# Altium integrated library AMP CompactPCI Type E.IntLib: 9 symbols
Pins are listed as number, name and electrical type; pins without a type are passive.

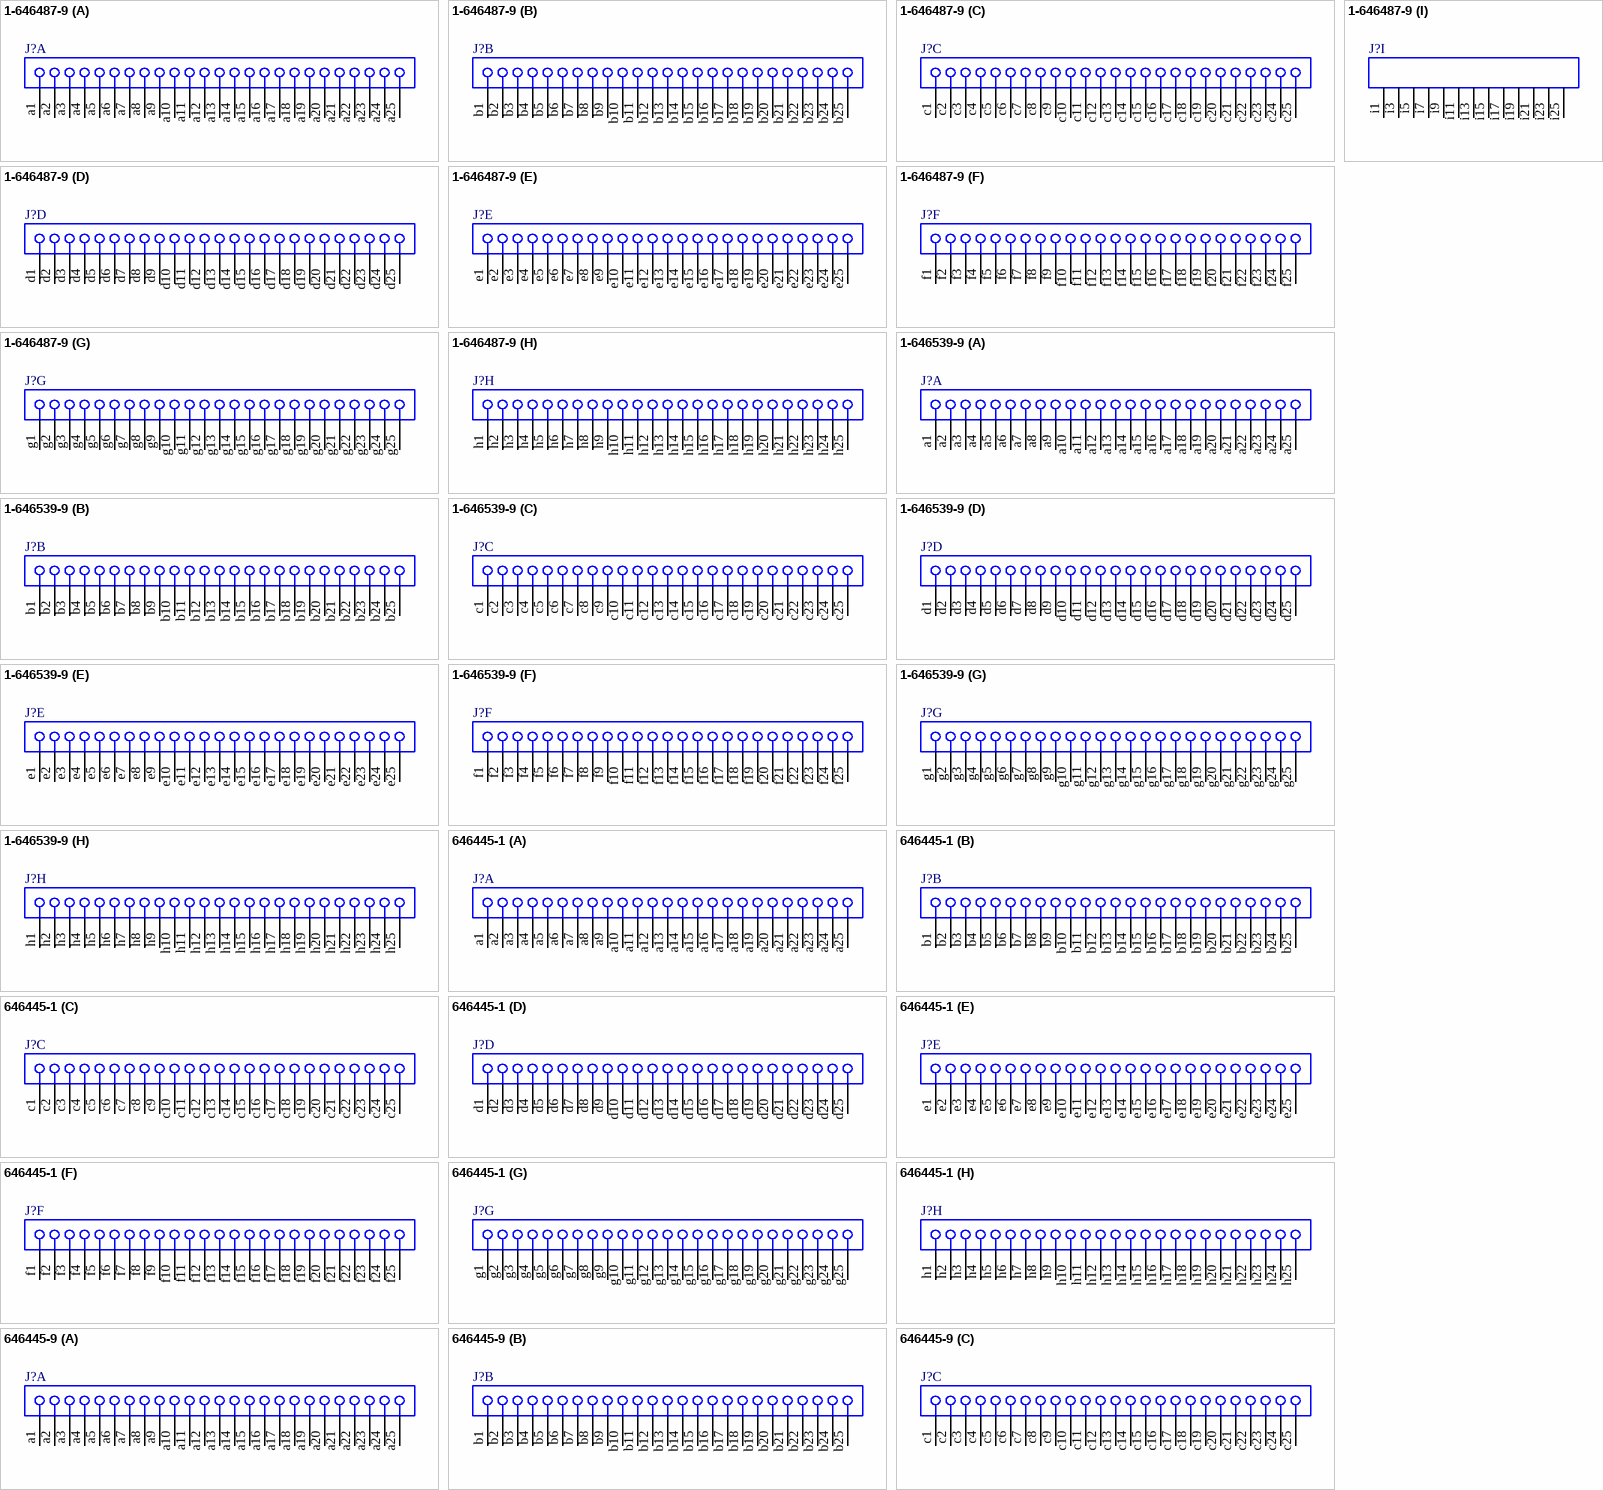
[diagram p0: symbols 1-646487-9 to 646445-9]

## 1-646487-9
designator J?
Z-Pack 2mm Hard Metric Type E 200 Position Female PCB Mount Connector; ContactMaterial: Phosphor Bronze; ContactPlating: Gold (50) over Nickel (50); Positions: 200; PCB_Layout: Complies with manufacturer's recommendation.; DrillSize: Corresponds to nominal value.; Published: 17-Jul-2002; LatestRevisionDate: 29-May-2009; LatestRevisionNote: Component Body Added.; DatasheetVersion: 30-Jul-1999; PackageVersion: 30-Jul-1999; PackageReference: 1-646487-9; Publisher: Altium Limited; Orientation: Right Angle; HousingMaterial: Glass-Filled Polyester, UL 94V-0; ComponentLink1Description: Manufacturer Link; ComponentLink1URL: http://www.tycoelectronics.com/; ComponentLink2Description: Packaging Specification; ComponentLink2URL: http://ecommas.tycoelectronics.com/commerce/DocumentDelivery/DDEController?Action=showdoc&DocId=Customer+Drawing%7F646487%7FD%7Fpdf%7FEnglish%7FENG_CD_646487_D.pdf; ComponentLink3Description: Iges Model; ComponentLink3URL: http://catalog.tycoelectronics.com/TE/docs/cadgeo/0/68/40860.tar.gz
footprint 1-646487-9 (Connector; CompactPCI; 200 Position; Right Angle)
signal-integrity model CompactPCI
part A pins: a1, a2, a3, a4, a5, a6, a7, a8, a9, a10, a11, a12, a13, a14, a15, a16, a17, a18, a19, a20, a21, a22, a23, a24, a25
part B pins: b1, b2, b3, b4, b5, b6, b7, b8, b9, b10, b11, b12, b13, b14, b15, b16, b17, b18, b19, b20, b21, b22, b23, b24, b25
part C pins: c1, c2, c3, c4, c5, c6, c7, c8, c9, c10, c11, c12, c13, c14, c15, c16, c17, c18, c19, c20, c21, c22, c23, c24, c25
part D pins: d1, d2, d3, d4, d5, d6, d7, d8, d9, d10, d11, d12, d13, d14, d15, d16, d17, d18, d19, d20, d21, d22, d23, d24, d25
part E pins: e1, e2, e3, e4, e5, e6, e7, e8, e9, e10, e11, e12, e13, e14, e15, e16, e17, e18, e19, e20, e21, e22, e23, e24, e25
part F pins: f1, f2, f3, f4, f5, f6, f7, f8, f9, f10, f11, f12, f13, f14, f15, f16, f17, f18, f19, f20, f21, f22, f23, f24, f25
part G pins: g1, g2, g3, g4, g5, g6, g7, g8, g9, g10, g11, g12, g13, g14, g15, g16, g17, g18, g19, g20, g21, g22, g23, g24, g25
part H pins: h1, h2, h3, h4, h5, h6, h7, h8, h9, h10, h11, h12, h13, h14, h15, h16, h17, h18, h19, h20, h21, h22, h23, h24, h25
part I pins: i1, i3, i5, i7, i9, i11, i13, i15, i17, i19, i21, i23, i25

## 1-646539-9
designator J?
Z-Pack 2mm Hard Metric Type E 200 Position Female PCB Mount Connector; ContactMaterial: Phosphor Bronze; ContactPlating: Gold (50) over Nickel (50); Positions: 200; PCB_Layout: Complies with manufacturer's recommendation.; DrillSize: Corresponds to nominal value.; Published: 17-Jul-2002; LatestRevisionDate: 29-May-2009; LatestRevisionNote: Component Body Added.; DatasheetVersion: 8-Jun-1999; PackageVersion: 08-Jun-1999; PackageReference: 1-646539-9; Publisher: Altium Limited; Orientation: Vertical; HousingMaterial: Glass-Filled Polyester, UL 94V-0; ComponentLink1Description: Manufacturer Link; ComponentLink1URL: http://www.tycoelectronics.com/; ComponentLink2Description: Packaging Specification; ComponentLink2URL: http://ecommas.tycoelectronics.com/commerce/DocumentDelivery/DDEController?Action=showdoc&DocId=Customer+Drawing%7F646539%7FC%7Fpdf%7FEnglish%7FENG_CD_646539_C.pdf
footprint 1-646539-9 (Connector; CompactPCI; 200 Position; Vertical)
signal-integrity model CompactPCI
part A pins: a1, a2, a3, a4, a5, a6, a7, a8, a9, a10, a11, a12, a13, a14, a15, a16, a17, a18, a19, a20, a21, a22, a23, a24, a25
part B pins: b1, b2, b3, b4, b5, b6, b7, b8, b9, b10, b11, b12, b13, b14, b15, b16, b17, b18, b19, b20, b21, b22, b23, b24, b25
part C pins: c1, c2, c3, c4, c5, c6, c7, c8, c9, c10, c11, c12, c13, c14, c15, c16, c17, c18, c19, c20, c21, c22, c23, c24, c25
part D pins: d1, d2, d3, d4, d5, d6, d7, d8, d9, d10, d11, d12, d13, d14, d15, d16, d17, d18, d19, d20, d21, d22, d23, d24, d25
part E pins: e1, e2, e3, e4, e5, e6, e7, e8, e9, e10, e11, e12, e13, e14, e15, e16, e17, e18, e19, e20, e21, e22, e23, e24, e25
part F pins: f1, f2, f3, f4, f5, f6, f7, f8, f9, f10, f11, f12, f13, f14, f15, f16, f17, f18, f19, f20, f21, f22, f23, f24, f25
part G pins: g1, g2, g3, g4, g5, g6, g7, g8, g9, g10, g11, g12, g13, g14, g15, g16, g17, g18, g19, g20, g21, g22, g23, g24, g25
part H pins: h1, h2, h3, h4, h5, h6, h7, h8, h9, h10, h11, h12, h13, h14, h15, h16, h17, h18, h19, h20, h21, h22, h23, h24, h25

## 646445-1
designator J?
Z-Pack 2mm Hard Metric Type E 200 Position Female PCB Mount Connector; ContactMaterial: Phosphor Bronze; ContactPlating: Gold (30) over Nickel (50); Positions: 200; PCB_Layout: Complies with manufacturer's recommendation.; DrillSize: Corresponds to nominal value.; Published: 17-Jul-2002; LatestRevisionDate: 29-May-2009; LatestRevisionNote: Component Body Added.; DatasheetVersion: 21-Sep-2000; PackageVersion: 21-Sep-2000; PackageReference: 646445-1; Publisher: Altium Limited; Orientation: Right Angle; HousingMaterial: Glass-Filled Polyester, UL 94V-0; ComponentLink1Description: Manufacturer Link; ComponentLink1URL: http://www.tycoelectronics.com/; ComponentLink2Description: Packaging Specification; ComponentLink2URL: http://ecommas.tycoelectronics.com/commerce/DocumentDelivery/DDEController?Action=showdoc&DocId=Customer+Drawing%7F646445%7FF%7Ftif%7FEnglish%7FENG_CD_646445_F.tif; ComponentLink3Description: URL Link1; ComponentLink3URL: http://catalog.tycoelectronics.com/TE/docs/cadgeo/6/73/38376.tar.gz
footprint 646445-1 (Connector; CompactPCI; 200 Position; Right Angle)
signal-integrity model CompactPCI
part A pins: a1, a2, a3, a4, a5, a6, a7, a8, a9, a10, a11, a12, a13, a14, a15, a16, a17, a18, a19, a20, a21, a22, a23, a24, a25
part B pins: b1, b2, b3, b4, b5, b6, b7, b8, b9, b10, b11, b12, b13, b14, b15, b16, b17, b18, b19, b20, b21, b22, b23, b24, b25
part C pins: c1, c2, c3, c4, c5, c6, c7, c8, c9, c10, c11, c12, c13, c14, c15, c16, c17, c18, c19, c20, c21, c22, c23, c24, c25
part D pins: d1, d2, d3, d4, d5, d6, d7, d8, d9, d10, d11, d12, d13, d14, d15, d16, d17, d18, d19, d20, d21, d22, d23, d24, d25
part E pins: e1, e2, e3, e4, e5, e6, e7, e8, e9, e10, e11, e12, e13, e14, e15, e16, e17, e18, e19, e20, e21, e22, e23, e24, e25
part F pins: f1, f2, f3, f4, f5, f6, f7, f8, f9, f10, f11, f12, f13, f14, f15, f16, f17, f18, f19, f20, f21, f22, f23, f24, f25
part G pins: g1, g2, g3, g4, g5, g6, g7, g8, g9, g10, g11, g12, g13, g14, g15, g16, g17, g18, g19, g20, g21, g22, g23, g24, g25
part H pins: h1, h2, h3, h4, h5, h6, h7, h8, h9, h10, h11, h12, h13, h14, h15, h16, h17, h18, h19, h20, h21, h22, h23, h24, h25

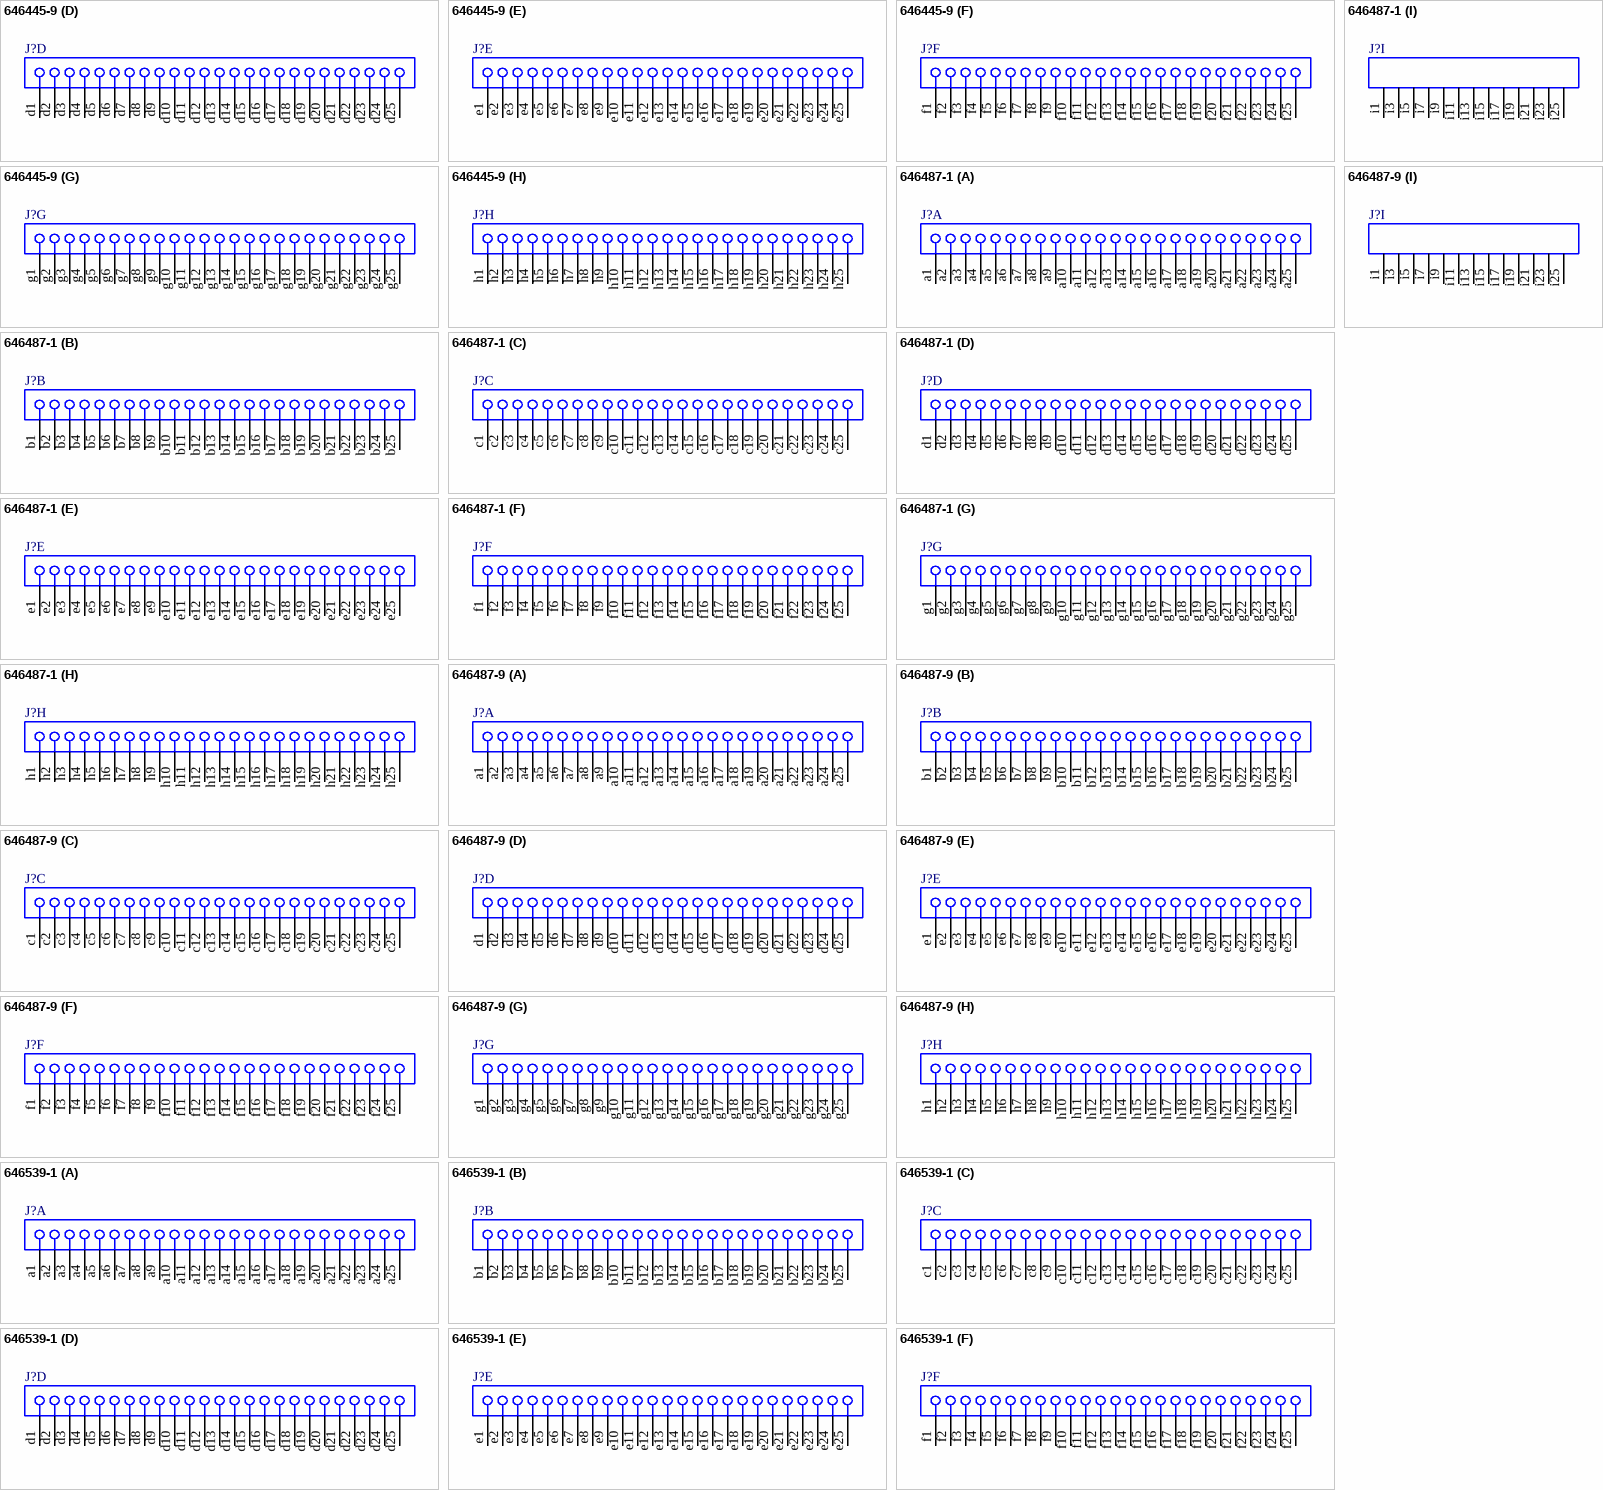
[diagram p1: symbols 646445-9 to 646539-1]

## 646445-9
designator J?
Z-Pack 2mm Hard Metric Type E 200 Position Female PCB Mount Connector; ContactMaterial: Phosphor Bronze; ContactPlating: Gold (30) over Nickel (50); Positions: 200; PCB_Layout: Complies with manufacturer's recommendation.; DrillSize: Corresponds to nominal value.; Published: 17-Jul-2002; LatestRevisionDate: 29-May-2009; LatestRevisionNote: Component Body Added.; DatasheetVersion: 21-Sep-2000; PackageVersion: 21-Sep-2000; PackageReference: 646445-9; Publisher: Altium Limited; Orientation: Right Angle; HousingMaterial: Glass-Filled Polyester, UL 94V-0; ComponentLink1Description: Manufacturer Link; ComponentLink1URL: http://www.tycoelectronics.com/; ComponentLink2Description: Packaging Specification; ComponentLink2URL: http://ecommas.tycoelectronics.com/commerce/DocumentDelivery/DDEController?Action=showdoc&DocId=Customer+Drawing%7F646445%7FF%7Ftif%7FEnglish%7FENG_CD_646445_F.tif; ComponentLink3Description: URL Link1; ComponentLink3URL: http://catalog.tycoelectronics.com/TE/docs/cadgeo/6/73/38376.tar.gz
footprint 646445-9 (Connector; CompactPCI; 200 Position; Right Angle)
signal-integrity model CompactPCI
part A pins: a1, a2, a3, a4, a5, a6, a7, a8, a9, a10, a11, a12, a13, a14, a15, a16, a17, a18, a19, a20, a21, a22, a23, a24, a25
part B pins: b1, b2, b3, b4, b5, b6, b7, b8, b9, b10, b11, b12, b13, b14, b15, b16, b17, b18, b19, b20, b21, b22, b23, b24, b25
part C pins: c1, c2, c3, c4, c5, c6, c7, c8, c9, c10, c11, c12, c13, c14, c15, c16, c17, c18, c19, c20, c21, c22, c23, c24, c25
part D pins: d1, d2, d3, d4, d5, d6, d7, d8, d9, d10, d11, d12, d13, d14, d15, d16, d17, d18, d19, d20, d21, d22, d23, d24, d25
part E pins: e1, e2, e3, e4, e5, e6, e7, e8, e9, e10, e11, e12, e13, e14, e15, e16, e17, e18, e19, e20, e21, e22, e23, e24, e25
part F pins: f1, f2, f3, f4, f5, f6, f7, f8, f9, f10, f11, f12, f13, f14, f15, f16, f17, f18, f19, f20, f21, f22, f23, f24, f25
part G pins: g1, g2, g3, g4, g5, g6, g7, g8, g9, g10, g11, g12, g13, g14, g15, g16, g17, g18, g19, g20, g21, g22, g23, g24, g25
part H pins: h1, h2, h3, h4, h5, h6, h7, h8, h9, h10, h11, h12, h13, h14, h15, h16, h17, h18, h19, h20, h21, h22, h23, h24, h25

## 646487-1
designator J?
Z-Pack 2mm Hard Metric Type E 200 Position Female PCB Mount Connector; ContactMaterial: Phosphor Bronze; ContactPlating: Gold (30) over Nickel (50); Positions: 200; PCB_Layout: Complies with manufacturer's recommendation.; DrillSize: Corresponds to nominal value.; Published: 17-Jul-2002; LatestRevisionDate: 29-May-2009; LatestRevisionNote: Component Body Added.; DatasheetVersion: 30-Jul-1999; PackageVersion: 30-Jul-1999; PackageReference: 646487-1; Publisher: Altium Limited; Orientation: Right Angle; HousingMaterial: Glass-Filled Polyester, UL 94V-0; ComponentLink1Description: Manufacturer Link; ComponentLink1URL: http://www.tycoelectronics.com/; ComponentLink2Description: Packaging Specification; ComponentLink2URL: http://ecommas.tycoelectronics.com/commerce/DocumentDelivery/DDEController?Action=showdoc&DocId=Customer+Drawing%7F646487%7FD%7Fpdf%7FEnglish%7FENG_CD_646487_D.pdf; ComponentLink3Description: Iges Model; ComponentLink3URL: http://catalog.tycoelectronics.com/TE/docs/cadgeo/0/68/40860.tar.gz
footprint 646487-1 (Connector; CompactPCI; 200 Position; Right Angle)
signal-integrity model CompactPCI
part A pins: a1, a2, a3, a4, a5, a6, a7, a8, a9, a10, a11, a12, a13, a14, a15, a16, a17, a18, a19, a20, a21, a22, a23, a24, a25
part B pins: b1, b2, b3, b4, b5, b6, b7, b8, b9, b10, b11, b12, b13, b14, b15, b16, b17, b18, b19, b20, b21, b22, b23, b24, b25
part C pins: c1, c2, c3, c4, c5, c6, c7, c8, c9, c10, c11, c12, c13, c14, c15, c16, c17, c18, c19, c20, c21, c22, c23, c24, c25
part D pins: d1, d2, d3, d4, d5, d6, d7, d8, d9, d10, d11, d12, d13, d14, d15, d16, d17, d18, d19, d20, d21, d22, d23, d24, d25
part E pins: e1, e2, e3, e4, e5, e6, e7, e8, e9, e10, e11, e12, e13, e14, e15, e16, e17, e18, e19, e20, e21, e22, e23, e24, e25
part F pins: f1, f2, f3, f4, f5, f6, f7, f8, f9, f10, f11, f12, f13, f14, f15, f16, f17, f18, f19, f20, f21, f22, f23, f24, f25
part G pins: g1, g2, g3, g4, g5, g6, g7, g8, g9, g10, g11, g12, g13, g14, g15, g16, g17, g18, g19, g20, g21, g22, g23, g24, g25
part H pins: h1, h2, h3, h4, h5, h6, h7, h8, h9, h10, h11, h12, h13, h14, h15, h16, h17, h18, h19, h20, h21, h22, h23, h24, h25
part I pins: i1, i3, i5, i7, i9, i11, i13, i15, i17, i19, i21, i23, i25

## 646487-9
designator J?
Z-Pack 2mm Hard Metric Type E 200 Position Female PCB Mount Connector; ContactMaterial: Phosphor Bronze; ContactPlating: Gold (30) over Nickel (50); Positions: 200; PCB_Layout: Complies with manufacturer's recommendation.; DrillSize: Corresponds to nominal value.; Published: 17-Jul-2002; LatestRevisionDate: 29-May-2009; LatestRevisionNote: Component Body Added.; DatasheetVersion: 30-Jul-1999; PackageVersion: 30-Jul-1999; PackageReference: 646487-9; Publisher: Altium Limited; Orientation: Right Angle; HousingMaterial: Glass-Filled Polyester, UL 94V-0; ComponentLink1Description: Manufacturer Link; ComponentLink1URL: http://www.tycoelectronics.com/; ComponentLink2Description: Packaging Specification; ComponentLink2URL: http://ecommas.tycoelectronics.com/commerce/DocumentDelivery/DDEController?Action=showdoc&DocId=Customer+Drawing%7F646487%7FD%7Fpdf%7FEnglish%7FENG_CD_646487_D.pdf; ComponentLink3Description: Iges Model; ComponentLink3URL: http://catalog.tycoelectronics.com/TE/docs/cadgeo/0/68/40860.tar.gz
footprint 646487-9 (Connector; CompactPCI; 200 Position; Right Angle)
signal-integrity model CompactPCI
part A pins: a1, a2, a3, a4, a5, a6, a7, a8, a9, a10, a11, a12, a13, a14, a15, a16, a17, a18, a19, a20, a21, a22, a23, a24, a25
part B pins: b1, b2, b3, b4, b5, b6, b7, b8, b9, b10, b11, b12, b13, b14, b15, b16, b17, b18, b19, b20, b21, b22, b23, b24, b25
part C pins: c1, c2, c3, c4, c5, c6, c7, c8, c9, c10, c11, c12, c13, c14, c15, c16, c17, c18, c19, c20, c21, c22, c23, c24, c25
part D pins: d1, d2, d3, d4, d5, d6, d7, d8, d9, d10, d11, d12, d13, d14, d15, d16, d17, d18, d19, d20, d21, d22, d23, d24, d25
part E pins: e1, e2, e3, e4, e5, e6, e7, e8, e9, e10, e11, e12, e13, e14, e15, e16, e17, e18, e19, e20, e21, e22, e23, e24, e25
part F pins: f1, f2, f3, f4, f5, f6, f7, f8, f9, f10, f11, f12, f13, f14, f15, f16, f17, f18, f19, f20, f21, f22, f23, f24, f25
part G pins: g1, g2, g3, g4, g5, g6, g7, g8, g9, g10, g11, g12, g13, g14, g15, g16, g17, g18, g19, g20, g21, g22, g23, g24, g25
part H pins: h1, h2, h3, h4, h5, h6, h7, h8, h9, h10, h11, h12, h13, h14, h15, h16, h17, h18, h19, h20, h21, h22, h23, h24, h25
part I pins: i1, i3, i5, i7, i9, i11, i13, i15, i17, i19, i21, i23, i25

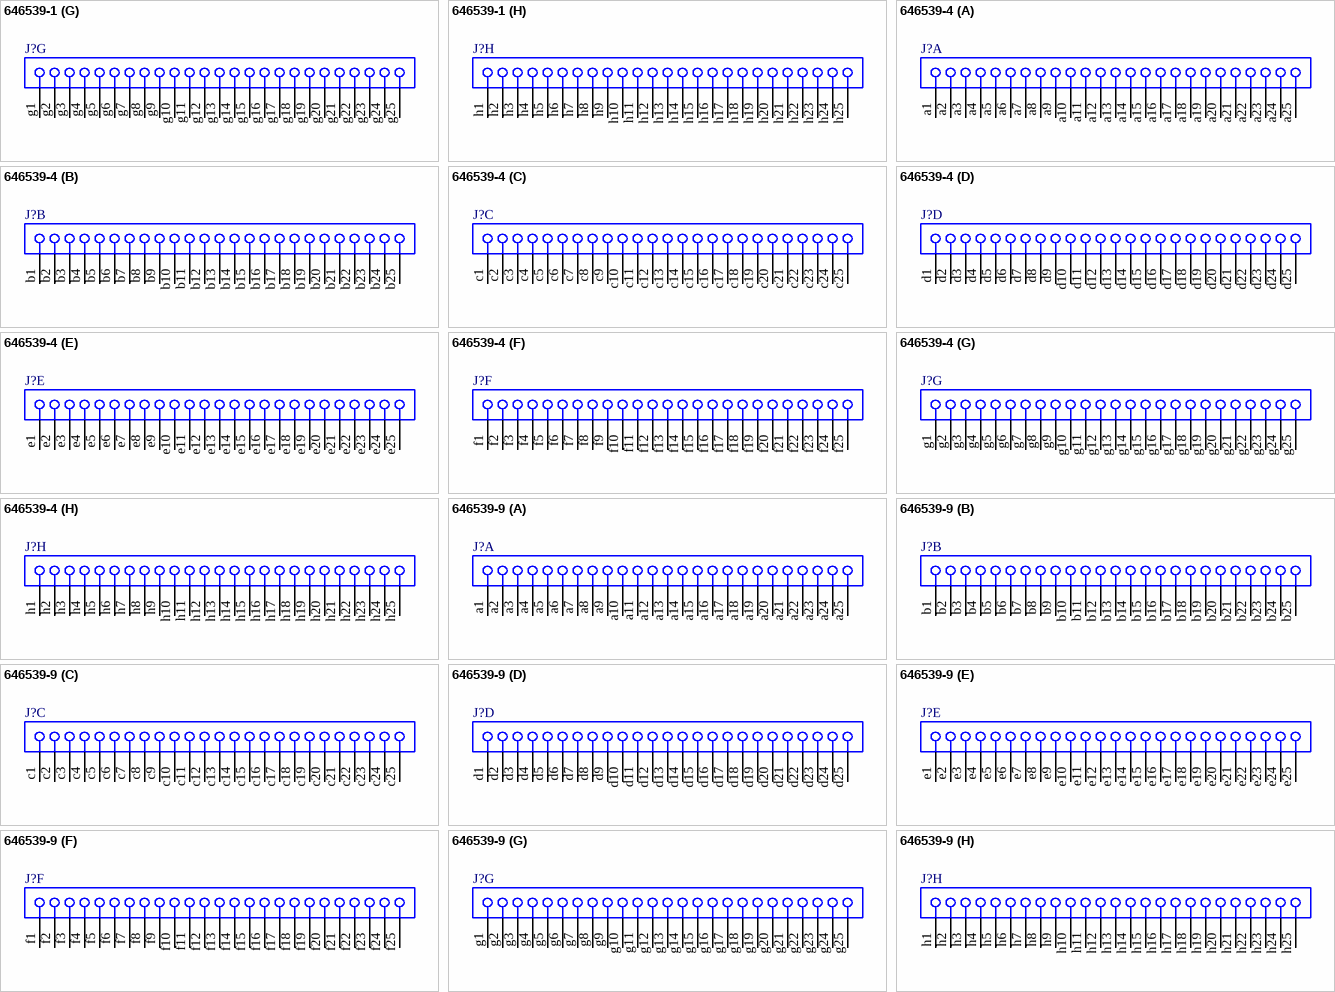
[diagram p2: symbols 646539-1 to 646539-9]

## 646539-1
designator J?
Z-Pack 2mm Hard Metric Type E 200 Position Female PCB Mount Connector; ContactMaterial: Phosphor Bronze; ContactPlating: Gold (30) over Nickel (50); Positions: 200; PCB_Layout: Complies with manufacturer's recommendation.; DrillSize: Corresponds to nominal value.; Published: 17-Jul-2002; LatestRevisionDate: 29-May-2009; LatestRevisionNote: Component Body Added.; DatasheetVersion: 8-Jun-1999; PackageVersion: 08-Jun-1999; PackageReference: 646539-1; Publisher: Altium Limited; Orientation: Vertical; HousingMaterial: Glass-Filled Polyester, UL 94V-0; ComponentLink1Description: Manufacturer Link; ComponentLink1URL: http://www.tycoelectronics.com/; ComponentLink2Description: Packaging Specification; ComponentLink2URL: http://ecommas.tycoelectronics.com/commerce/DocumentDelivery/DDEController?Action=showdoc&DocId=Customer+Drawing%7F646539%7FC%7Fpdf%7FEnglish%7FENG_CD_646539_C.pdf
footprint 646539-1 (Connector; CompactPCI; 200 Position; Vertical)
signal-integrity model CompactPCI
part A pins: a1, a2, a3, a4, a5, a6, a7, a8, a9, a10, a11, a12, a13, a14, a15, a16, a17, a18, a19, a20, a21, a22, a23, a24, a25
part B pins: b1, b2, b3, b4, b5, b6, b7, b8, b9, b10, b11, b12, b13, b14, b15, b16, b17, b18, b19, b20, b21, b22, b23, b24, b25
part C pins: c1, c2, c3, c4, c5, c6, c7, c8, c9, c10, c11, c12, c13, c14, c15, c16, c17, c18, c19, c20, c21, c22, c23, c24, c25
part D pins: d1, d2, d3, d4, d5, d6, d7, d8, d9, d10, d11, d12, d13, d14, d15, d16, d17, d18, d19, d20, d21, d22, d23, d24, d25
part E pins: e1, e2, e3, e4, e5, e6, e7, e8, e9, e10, e11, e12, e13, e14, e15, e16, e17, e18, e19, e20, e21, e22, e23, e24, e25
part F pins: f1, f2, f3, f4, f5, f6, f7, f8, f9, f10, f11, f12, f13, f14, f15, f16, f17, f18, f19, f20, f21, f22, f23, f24, f25
part G pins: g1, g2, g3, g4, g5, g6, g7, g8, g9, g10, g11, g12, g13, g14, g15, g16, g17, g18, g19, g20, g21, g22, g23, g24, g25
part H pins: h1, h2, h3, h4, h5, h6, h7, h8, h9, h10, h11, h12, h13, h14, h15, h16, h17, h18, h19, h20, h21, h22, h23, h24, h25

## 646539-4
designator J?
Z-Pack 2mm Hard Metric Type E 200 Position Female PCB Mount Connector; ContactMaterial: Phosphor Bronze; ContactPlating: Gold (50) over Nickel (50); Positions: 200; PCB_Layout: Complies with manufacturer's recommendation.; DrillSize: Corresponds to nominal value.; Published: 17-Jul-2002; LatestRevisionDate: 29-May-2009; LatestRevisionNote: Component Body Added.; DatasheetVersion: 8-Jun-1999; PackageVersion: 08-Jun-1999; PackageReference: 646539-4; Publisher: Altium Limited; Orientation: Vertical; HousingMaterial: Glass-Filled Polyester, UL 94V-0; ComponentLink1Description: Manufacturer Link; ComponentLink1URL: http://www.tycoelectronics.com/; ComponentLink2Description: Packaging Specification; ComponentLink2URL: http://ecommas.tycoelectronics.com/commerce/DocumentDelivery/DDEController?Action=showdoc&DocId=Customer+Drawing%7F646539%7FC%7Fpdf%7FEnglish%7FENG_CD_646539_C.pdf
footprint 646539-4 (Connector; CompactPCI; 200 Position; Vertical)
signal-integrity model CompactPCI
part A pins: a1, a2, a3, a4, a5, a6, a7, a8, a9, a10, a11, a12, a13, a14, a15, a16, a17, a18, a19, a20, a21, a22, a23, a24, a25
part B pins: b1, b2, b3, b4, b5, b6, b7, b8, b9, b10, b11, b12, b13, b14, b15, b16, b17, b18, b19, b20, b21, b22, b23, b24, b25
part C pins: c1, c2, c3, c4, c5, c6, c7, c8, c9, c10, c11, c12, c13, c14, c15, c16, c17, c18, c19, c20, c21, c22, c23, c24, c25
part D pins: d1, d2, d3, d4, d5, d6, d7, d8, d9, d10, d11, d12, d13, d14, d15, d16, d17, d18, d19, d20, d21, d22, d23, d24, d25
part E pins: e1, e2, e3, e4, e5, e6, e7, e8, e9, e10, e11, e12, e13, e14, e15, e16, e17, e18, e19, e20, e21, e22, e23, e24, e25
part F pins: f1, f2, f3, f4, f5, f6, f7, f8, f9, f10, f11, f12, f13, f14, f15, f16, f17, f18, f19, f20, f21, f22, f23, f24, f25
part G pins: g1, g2, g3, g4, g5, g6, g7, g8, g9, g10, g11, g12, g13, g14, g15, g16, g17, g18, g19, g20, g21, g22, g23, g24, g25
part H pins: h1, h2, h3, h4, h5, h6, h7, h8, h9, h10, h11, h12, h13, h14, h15, h16, h17, h18, h19, h20, h21, h22, h23, h24, h25

## 646539-9
designator J?
Z-Pack 2mm Hard Metric Type E 200 Position Female PCB Mount Connector; ContactMaterial: Phosphor Bronze; ContactPlating: Gold (30) over Nickel (50); Positions: 200; PCB_Layout: Complies with manufacturer's recommendation.; DrillSize: Corresponds to nominal value.; Published: 17-Jul-2002; LatestRevisionDate: 29-May-2009; LatestRevisionNote: Component Body Added.; DatasheetVersion: 8-Jun-1999; PackageVersion: 08-Jun-1999; PackageReference: 646539-9; Publisher: Altium Limited; Orientation: Vertical; HousingMaterial: Glass-Filled Polyester, UL 94V-0; ComponentLink1Description: Manufacturer Link; ComponentLink1URL: http://www.tycoelectronics.com/; ComponentLink2Description: Packaging Specification; ComponentLink2URL: http://ecommas.tycoelectronics.com/commerce/DocumentDelivery/DDEController?Action=showdoc&DocId=Customer+Drawing%7F646539%7FC%7Fpdf%7FEnglish%7FENG_CD_646539_C.pdf
footprint 646539-9 (Connector; CompactPCI; 200 Position; Vertical)
signal-integrity model CompactPCI
part A pins: a1, a2, a3, a4, a5, a6, a7, a8, a9, a10, a11, a12, a13, a14, a15, a16, a17, a18, a19, a20, a21, a22, a23, a24, a25
part B pins: b1, b2, b3, b4, b5, b6, b7, b8, b9, b10, b11, b12, b13, b14, b15, b16, b17, b18, b19, b20, b21, b22, b23, b24, b25
part C pins: c1, c2, c3, c4, c5, c6, c7, c8, c9, c10, c11, c12, c13, c14, c15, c16, c17, c18, c19, c20, c21, c22, c23, c24, c25
part D pins: d1, d2, d3, d4, d5, d6, d7, d8, d9, d10, d11, d12, d13, d14, d15, d16, d17, d18, d19, d20, d21, d22, d23, d24, d25
part E pins: e1, e2, e3, e4, e5, e6, e7, e8, e9, e10, e11, e12, e13, e14, e15, e16, e17, e18, e19, e20, e21, e22, e23, e24, e25
part F pins: f1, f2, f3, f4, f5, f6, f7, f8, f9, f10, f11, f12, f13, f14, f15, f16, f17, f18, f19, f20, f21, f22, f23, f24, f25
part G pins: g1, g2, g3, g4, g5, g6, g7, g8, g9, g10, g11, g12, g13, g14, g15, g16, g17, g18, g19, g20, g21, g22, g23, g24, g25
part H pins: h1, h2, h3, h4, h5, h6, h7, h8, h9, h10, h11, h12, h13, h14, h15, h16, h17, h18, h19, h20, h21, h22, h23, h24, h25